# Altium footprint library Interface USB.PcbLib: 41 footprints (part 2 of 3)
Each footprint in its own frame and in the unit in brackets; x right, y up, seen from the top. Pads: shape width x height; smd on the part's side, far side on the other; paste and mask are expansions set on the pad; w line width, h text height; cw(c..) or ccw(c..) is an arc to the next point about the centre after c.
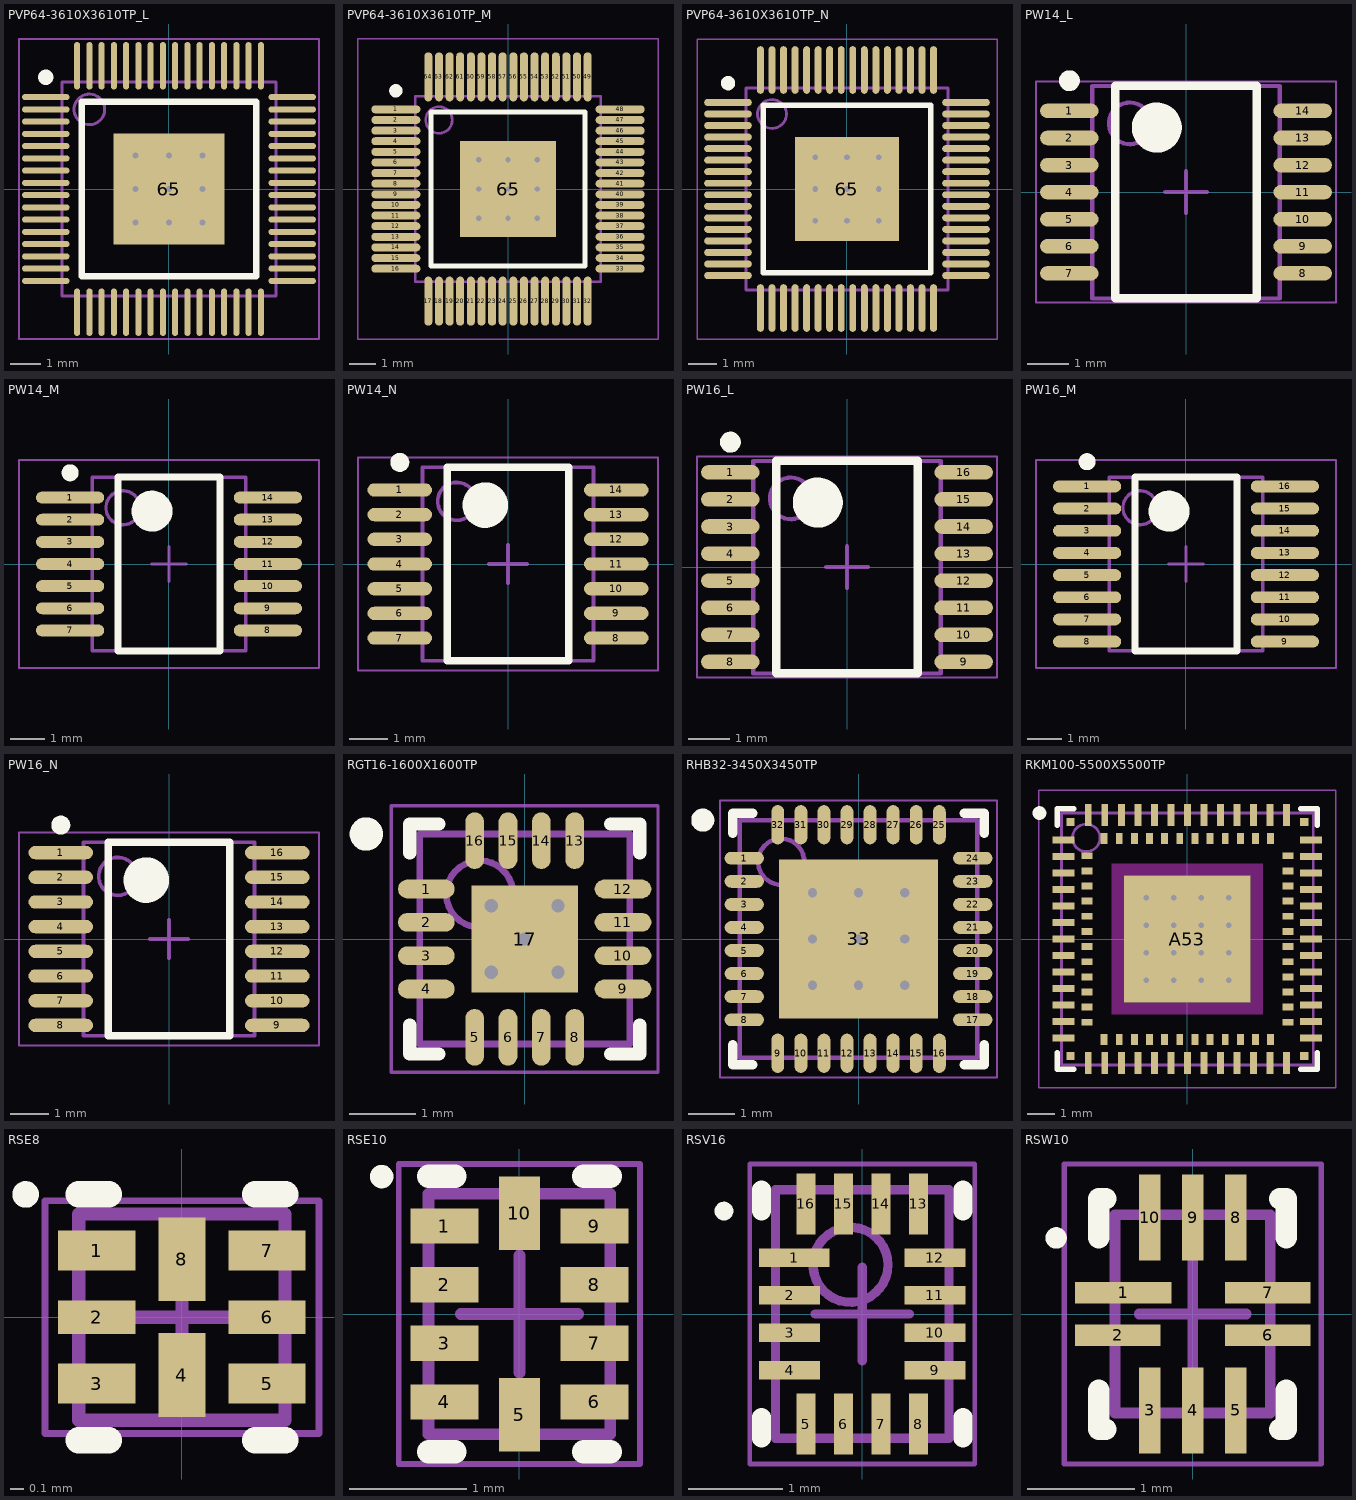
[diagram p1: the footprints below, top view; thin cyan lines are the x and y axes]

## PVP64-3610X3610TP_L [mm] "Thin QFP, 64-Leads, Body 7x7mm, Pitch 0.4mm, IPC High Density"
height 1.2
pads (65):
  oval 1.55x0.2 smd: 1(-4.025,3) 2(-4.025,2.6) 3(-4.025,2.2) 4(-4.025,1.8) 5(-4.025,1.4) 6(-4.025,1) 7(-4.025,0.6) 8(-4.025,0.2) 9(-4.025,-0.2) 10(-4.025,-0.6) 11(-4.025,-1) 12(-4.025,-1.4) 13(-4.025,-1.8) 14(-4.025,-2.2) 15(-4.025,-2.6) 16(-4.025,-3) 33(4.025,-3) 34(4.025,-2.6) 35(4.025,-2.2) 36(4.025,-1.8) 37(4.025,-1.4) 38(4.025,-1) 39(4.025,-0.6) 40(4.025,-0.2) 41(4.025,0.2) 42(4.025,0.6) 43(4.025,1) 44(4.025,1.4) 45(4.025,1.8) 46(4.025,2.2) 47(4.025,2.6) 48(4.025,3)
  oval 0.2x1.55 smd: 17(-3,-4.025) 18(-2.6,-4.025) 19(-2.2,-4.025) 20(-1.8,-4.025) 21(-1.4,-4.025) 22(-1,-4.025) 23(-0.6,-4.025) 24(-0.2,-4.025) 25(0.2,-4.025) 26(0.6,-4.025) 27(1,-4.025) 28(1.4,-4.025) 29(1.8,-4.025) 30(2.2,-4.025) 31(2.6,-4.025) 32(3,-4.025) 49(3,4.025) 50(2.6,4.025) 51(2.2,4.025) 52(1.8,4.025) 53(1.4,4.025) 54(1,4.025) 55(0.6,4.025) 56(0.2,4.025) 57(-0.2,4.025) 58(-0.6,4.025) 59(-1,4.025) 60(-1.4,4.025) 61(-1.8,4.025) 62(-2.2,4.025) 63(-2.6,4.025) 64(-3,4.025)
  rect 3.61x3.61 smd: 65(0,0)
via 0,0 diameter 0.5 hole 0.2
via -1.1,0 diameter 0.5 hole 0.2
via -1.1,-1.1 diameter 0.5 hole 0.2
via 0,-1.1 diameter 0.5 hole 0.2
via 1.1,-1.1 diameter 0.5 hole 0.2
via 1.1,0 diameter 0.5 hole 0.2
via 1.1,1.1 diameter 0.5 hole 0.2
via 0,1.1 diameter 0.5 hole 0.2
via -1.1,1.1 diameter 0.5 hole 0.2
Top Overlay:
  circle w0.25: c-4.025,3.65 r0.125
  lines w0.2: -2.85,-2.85 -2.85,2.85 2.85,2.85 2.85,-2.85 -2.85,-2.85
Mechanical 13:
  circle w0.1: c-2.6,2.6 r0.5
  lines w0.1: -3.5,-3.5 -3.5,3.5 3.5,3.5 3.5,-3.5 -3.5,-3.5
Mechanical 15:
  lines w0.05: -4.9,-4.9 -4.9,4.9 4.9,4.9 4.9,-4.9 -4.9,-4.9
  lines w0.1: -0.5,0 0.5,0 ; 0,-0.5 0,0.5
3D body "TQFP64_7x7mm_Pitch0.4mm..step": height 1, standoff 0, extent -4.5,-4.5 4.5,4.5

## PVP64-3610X3610TP_M [mm] "Thin QFP, 64-Leads, Body 7x7mm, Pitch 0.4mm, IPC Low Density"
height 1.2
pads (65):
  oval 1.85x0.3 smd: 1(-4.225,3) 2(-4.225,2.6) 3(-4.225,2.2) 4(-4.225,1.8) 5(-4.225,1.4) 6(-4.225,1) 7(-4.225,0.6) 8(-4.225,0.2) 9(-4.225,-0.2) 10(-4.225,-0.6) 11(-4.225,-1) 12(-4.225,-1.4) 13(-4.225,-1.8) 14(-4.225,-2.2) 15(-4.225,-2.6) 16(-4.225,-3) 33(4.225,-3) 34(4.225,-2.6) 35(4.225,-2.2) 36(4.225,-1.8) 37(4.225,-1.4) 38(4.225,-1) 39(4.225,-0.6) 40(4.225,-0.2) 41(4.225,0.2) 42(4.225,0.6) 43(4.225,1) 44(4.225,1.4) 45(4.225,1.8) 46(4.225,2.2) 47(4.225,2.6) 48(4.225,3)
  oval 0.3x1.85 smd: 17(-3,-4.225) 18(-2.6,-4.225) 19(-2.2,-4.225) 20(-1.8,-4.225) 21(-1.4,-4.225) 22(-1,-4.225) 23(-0.6,-4.225) 24(-0.2,-4.225) 25(0.2,-4.225) 26(0.6,-4.225) 27(1,-4.225) 28(1.4,-4.225) 29(1.8,-4.225) 30(2.2,-4.225) 31(2.6,-4.225) 32(3,-4.225) 49(3,4.225) 50(2.6,4.225) 51(2.2,4.225) 52(1.8,4.225) 53(1.4,4.225) 54(1,4.225) 55(0.6,4.225) 56(0.2,4.225) 57(-0.2,4.225) 58(-0.6,4.225) 59(-1,4.225) 60(-1.4,4.225) 61(-1.8,4.225) 62(-2.2,4.225) 63(-2.6,4.225) 64(-3,4.225)
  rect 3.61x3.61 smd: 65(0,0)
via -1.1,1.1 diameter 0.5 hole 0.2
via 0,1.1 diameter 0.5 hole 0.2
via 1.1,1.1 diameter 0.5 hole 0.2
via 1.1,0 diameter 0.5 hole 0.2
via 1.1,-1.1 diameter 0.5 hole 0.2
via 0,-1.1 diameter 0.5 hole 0.2
via -1.1,-1.1 diameter 0.5 hole 0.2
via -1.1,0 diameter 0.5 hole 0.2
via 0,0 diameter 0.5 hole 0.2
Top Overlay:
  circle w0.25: c-4.225,3.7 r0.125
  lines w0.2: -2.9,-2.9 2.9,-2.9 2.9,2.9 -2.9,2.9 -2.9,-2.9
Mechanical 13:
  circle w0.1: c-2.6,2.6 r0.5
  lines w0.1: -3.5,-3.5 3.5,-3.5 3.5,3.5 -3.5,3.5 -3.5,-3.5
Mechanical 15:
  lines w0.05: -5.65,-5.65 5.65,-5.65 5.65,5.65 -5.65,5.65 -5.65,-5.65
  lines w0.1: -0.5,0 0.5,0 ; 0,-0.5 0,0.5
3D body "TQFP64_7x7mm_Pitch0.4mm..step": height 1, standoff 0, extent -4.5,-4.5 4.5,4.5

## PVP64-3610X3610TP_N [mm] "Thin QFP, 64-Leads, Body 7x7mm, Pitch 0.4mm, IPC Medium Density"
height 1.2
pads (65):
  oval 1.65x0.24 smd: 1(-4.125,3) 2(-4.125,2.6) 3(-4.125,2.2) 4(-4.125,1.8) 5(-4.125,1.4) 6(-4.125,1) 7(-4.125,0.6) 8(-4.125,0.2) 9(-4.125,-0.2) 10(-4.125,-0.6) 11(-4.125,-1) 12(-4.125,-1.4) 13(-4.125,-1.8) 14(-4.125,-2.2) 15(-4.125,-2.6) 16(-4.125,-3) 33(4.125,-3) 34(4.125,-2.6) 35(4.125,-2.2) 36(4.125,-1.8) 37(4.125,-1.4) 38(4.125,-1) 39(4.125,-0.6) 40(4.125,-0.2) 41(4.125,0.2) 42(4.125,0.6) 43(4.125,1) 44(4.125,1.4) 45(4.125,1.8) 46(4.125,2.2) 47(4.125,2.6) 48(4.125,3)
  oval 0.24x1.65 smd: 17(-3,-4.125) 18(-2.6,-4.125) 19(-2.2,-4.125) 20(-1.8,-4.125) 21(-1.4,-4.125) 22(-1,-4.125) 23(-0.6,-4.125) 24(-0.2,-4.125) 25(0.2,-4.125) 26(0.6,-4.125) 27(1,-4.125) 28(1.4,-4.125) 29(1.8,-4.125) 30(2.2,-4.125) 31(2.6,-4.125) 32(3,-4.125) 49(3,4.125) 50(2.6,4.125) 51(2.2,4.125) 52(1.8,4.125) 53(1.4,4.125) 54(1,4.125) 55(0.6,4.125) 56(0.2,4.125) 57(-0.2,4.125) 58(-0.6,4.125) 59(-1,4.125) 60(-1.4,4.125) 61(-1.8,4.125) 62(-2.2,4.125) 63(-2.6,4.125) 64(-3,4.125)
  rect 3.61x3.61 smd: 65(0,0)
via -1.1,1.1 diameter 0.5 hole 0.2
via 0,1.1 diameter 0.5 hole 0.2
via 1.1,1.1 diameter 0.5 hole 0.2
via 1.1,0 diameter 0.5 hole 0.2
via 1.1,-1.1 diameter 0.5 hole 0.2
via 0,-1.1 diameter 0.5 hole 0.2
via -1.1,-1.1 diameter 0.5 hole 0.2
via -1.1,0 diameter 0.5 hole 0.2
via 0,0 diameter 0.5 hole 0.2
Top Overlay:
  circle w0.25: c-4.125,3.67 r0.125
  lines w0.2: -2.9,-2.9 2.9,-2.9 2.9,2.9 -2.9,2.9 -2.9,-2.9
Mechanical 13:
  circle w0.1: c-2.6,2.6 r0.5
  lines w0.1: -3.5,-3.5 3.5,-3.5 3.5,3.5 -3.5,3.5 -3.5,-3.5
Mechanical 15:
  lines w0.05: -5.2,-5.2 5.2,-5.2 5.2,5.2 -5.2,5.2 -5.2,-5.2
  lines w0.1: -0.5,0 0.5,0 ; 0,-0.5 0,0.5
3D body "TQFP64_7x7mm_Pitch0.4mm..step": height 1, standoff 0, extent -4.5,-4.5 4.5,4.5

## PW14_L [mm] "TSOP, 14-Leads, Body 5x4.4mm, Pitch 0.65mm, IPC High Density"
height 1.2
pads (14):
  oval 1.4x0.35 smd: 1(-2.8,1.95) 2(-2.8,1.3) 3(-2.8,0.65) 4(-2.8,0) 5(-2.8,-0.65) 6(-2.8,-1.3) 7(-2.8,-1.95) 8(2.8,-1.95) 9(2.8,-1.3) 10(2.8,-0.65) 11(2.8,0) 12(2.8,0.65) 13(2.8,1.3) 14(2.8,1.95)
Top Overlay:
  circle w0.6: c-0.7,1.55 r0.3
  circle w0.25: c-2.8,2.675 r0.125
  lines w0.2: -1.7,-2.55 1.7,-2.55 1.7,2.55 -1.7,2.55 -1.7,-2.55
Mechanical 13:
  circle w0.1: c-1.35,1.65 r0.5
  lines w0.1: -2.25,-2.55 2.25,-2.55 2.25,2.55 -2.25,2.55 -2.25,-2.55
Mechanical 15:
  lines w0.05: -3.6,-2.65 3.6,-2.65 3.6,2.65 -3.6,2.65 -3.6,-2.65
  lines w0.1: -0.5,0 0.5,0 ; 0,-0.5 0,0.5
3D body "TSSOP14-1.step": height 1.1, standoff 0, extent -3.2,-2.5 3.2,2.5

## PW14_M [mm] "TSOP, 14-Leads, Body 5x4.4mm, Pitch 0.65mm, IPC Low Density"
height 1.2
pads (14):
  oval 2x0.35 smd: 1(-2.9,1.95) 2(-2.9,1.3) 3(-2.9,0.65) 4(-2.9,0) 5(-2.9,-0.65) 6(-2.9,-1.3) 7(-2.9,-1.95) 8(2.9,-1.95) 9(2.9,-1.3) 10(2.9,-0.65) 11(2.9,0) 12(2.9,0.65) 13(2.9,1.3) 14(2.9,1.95)
Top Overlay:
  circle w0.6: c-0.5,1.55 r0.3
  circle w0.25: c-2.9,2.675 r0.125
  lines w0.2: -1.5,-2.55 1.5,-2.55 1.5,2.55 -1.5,2.55 -1.5,-2.55
Mechanical 13:
  circle w0.1: c-1.35,1.65 r0.5
  lines w0.1: -2.25,-2.55 2.25,-2.55 2.25,2.55 -2.25,2.55 -2.25,-2.55
Mechanical 15:
  lines w0.05: -4.4,-3.05 4.4,-3.05 4.4,3.05 -4.4,3.05 -4.4,-3.05
  lines w0.1: -0.5,0 0.5,0 ; 0,-0.5 0,0.5
3D body "TSSOP14-1.step": height 1.1, standoff 0, extent -3.2,-2.5 3.2,2.5

## PW14_N [mm] "TSOP, 14-Leads, Body 5x4.4mm, Pitch 0.65mm, IPC Medium Density"
height 1.2
pads (14):
  oval 1.7x0.35 smd: 1(-2.85,1.95) 2(-2.85,1.3) 3(-2.85,0.65) 4(-2.85,0) 5(-2.85,-0.65) 6(-2.85,-1.3) 7(-2.85,-1.95) 8(2.85,-1.95) 9(2.85,-1.3) 10(2.85,-0.65) 11(2.85,0) 12(2.85,0.65) 13(2.85,1.3) 14(2.85,1.95)
Top Overlay:
  circle w0.6: c-0.6,1.55 r0.3
  circle w0.25: c-2.85,2.675 r0.125
  lines w0.2: -1.6,-2.55 1.6,-2.55 1.6,2.55 -1.6,2.55 -1.6,-2.55
Mechanical 13:
  circle w0.1: c-1.35,1.65 r0.5
  lines w0.1: -2.25,-2.55 2.25,-2.55 2.25,2.55 -2.25,2.55 -2.25,-2.55
Mechanical 15:
  lines w0.05: -3.95,-2.8 3.95,-2.8 3.95,2.8 -3.95,2.8 -3.95,-2.8
  lines w0.1: -0.5,0 0.5,0 ; 0,-0.5 0,0.5
3D body "TSSOP14-1.step": height 1.1, standoff 0, extent -3.2,-2.5 3.2,2.5

## PW16_L [mm] "TSOP, 16-Leads, Body 5x4.4mm, Pitch 0.65mm, IPC High Density"
height 1.2
pads (16):
  oval 1.4x0.35 smd: 1(-2.8,2.275) 2(-2.8,1.625) 3(-2.8,0.975) 4(-2.8,0.325) 5(-2.8,-0.325) 6(-2.8,-0.975) 7(-2.8,-1.625) 8(-2.8,-2.275) 9(2.8,-2.275) 10(2.8,-1.625) 11(2.8,-0.975) 12(2.8,-0.325) 13(2.8,0.325) 14(2.8,0.975) 15(2.8,1.625) 16(2.8,2.275)
Top Overlay:
  circle w0.6: c-0.7,1.55 r0.3
  circle w0.25: c-2.8,3 r0.125
  lines w0.2: -1.7,-2.55 1.7,-2.55 1.7,2.55 -1.7,2.55 -1.7,-2.55
Mechanical 13:
  circle w0.1: c-1.35,1.65 r0.5
  lines w0.1: -2.25,-2.55 2.25,-2.55 2.25,2.55 -2.25,2.55 -2.25,-2.55
Mechanical 15:
  lines w0.05: -3.6,-2.65 3.6,-2.65 3.6,2.65 -3.6,2.65 -3.6,-2.65
  lines w0.1: -0.5,0 0.5,0 ; 0,-0.5 0,0.5
3D body "TSSOP16-1.step": height 1.1, standoff 0, extent -3.2,-2.5 3.2,2.5

## PW16_M [mm] "TSOP, 16-Leads, Body 5x4.4mm, Pitch 0.65mm, IPC Low Density"
height 1.2
pads (16):
  oval 2x0.35 smd: 1(-2.9,2.275) 2(-2.9,1.625) 3(-2.9,0.975) 4(-2.9,0.325) 5(-2.9,-0.325) 6(-2.9,-0.975) 7(-2.9,-1.625) 8(-2.9,-2.275) 9(2.9,-2.275) 10(2.9,-1.625) 11(2.9,-0.975) 12(2.9,-0.325) 13(2.9,0.325) 14(2.9,0.975) 15(2.9,1.625) 16(2.9,2.275)
Top Overlay:
  circle w0.6: c-0.5,1.55 r0.3
  circle w0.25: c-2.9,3 r0.125
  lines w0.2: -1.5,-2.55 1.5,-2.55 1.5,2.55 -1.5,2.55 -1.5,-2.55
Mechanical 13:
  circle w0.1: c-1.35,1.65 r0.5
  lines w0.1: -2.25,-2.55 2.25,-2.55 2.25,2.55 -2.25,2.55 -2.25,-2.55
Mechanical 15:
  lines w0.05: -4.4,-3.05 4.4,-3.05 4.4,3.05 -4.4,3.05 -4.4,-3.05
  lines w0.1: -0.5,0 0.5,0 ; 0,-0.5 0,0.5
3D body "TSSOP16-1.step": height 1.1, standoff 0, extent -3.2,-2.5 3.2,2.5

## PW16_N [mm] "TSOP, 16-Leads, Body 5x4.4mm, Pitch 0.65mm, IPC Medium Density"
height 1.2
pads (16):
  oval 1.7x0.35 smd: 1(-2.85,2.275) 2(-2.85,1.625) 3(-2.85,0.975) 4(-2.85,0.325) 5(-2.85,-0.325) 6(-2.85,-0.975) 7(-2.85,-1.625) 8(-2.85,-2.275) 9(2.85,-2.275) 10(2.85,-1.625) 11(2.85,-0.975) 12(2.85,-0.325) 13(2.85,0.325) 14(2.85,0.975) 15(2.85,1.625) 16(2.85,2.275)
Top Overlay:
  circle w0.25: c-2.85,3 r0.125
  circle w0.6: c-0.6,1.55 r0.3
  lines w0.2: -1.6,-2.55 -1.6,2.55 1.6,2.55 1.6,-2.55 -1.6,-2.55
Mechanical 13:
  circle w0.1: c-1.35,1.65 r0.5
  lines w0.1: -2.25,-2.55 -2.25,2.55 2.25,2.55 2.25,-2.55 -2.25,-2.55
Mechanical 15:
  lines w0.05: -3.95,-2.8 -3.95,2.8 3.95,2.8 3.95,-2.8 -3.95,-2.8
  lines w0.1: -0.5,0 0.5,0 ; 0,-0.5 0,0.5
3D body "TSSOP16-1.step": height 1.1, standoff 0, extent -3.2,-2.5 3.2,2.5

## RGT16-1600X1600TP [mm] "QFN, 16-Leads, Body 3x3mm, Pitch 0.5mm, Thermal Pad 1.6x1.6mm, TI Recommended"
height 1
pads (17):
  oval 0.85x0.28 smd paste-0.025 mask+0.07: 1(-1.475,0.75) 2(-1.475,0.25) 3(-1.475,-0.25) 4(-1.475,-0.75) 9(1.475,-0.75) 10(1.475,-0.25) 11(1.475,0.25) 12(1.475,0.75)
  oval 0.28x0.85 smd paste-0.025 mask+0.07: 5(-0.75,-1.475) 6(-0.25,-1.475) 7(0.25,-1.475) 8(0.75,-1.475) 13(0.75,1.475) 14(0.25,1.475) 15(-0.25,1.475) 16(-0.75,1.475)
  rect 1.6x1.6 smd paste-0.8 mask+0.07: 17(0,0)
via 0,0 diameter 0.5 hole 0.2
via 0.5,-0.5 diameter 0.5 hole 0.2
via -0.5,-0.5 diameter 0.5 hole 0.2
via 0.5,0.5 diameter 0.5 hole 0.2
via -0.5,0.5 diameter 0.5 hole 0.2
Top Overlay:
  circle w0.25: c-2.375,1.575 r0.125
  lines w0.2: -1.725,-1.29 -1.725,-1.725 -1.29,-1.725 ; -1.725,1.29 -1.725,1.725 -1.29,1.725 ; 1.29,-1.725 1.725,-1.725 1.725,-1.29 ; 1.29,1.725 1.725,1.725 1.725,1.29
Top Paste:
  rectangle: 0.1,-0.8 0.8,-0.1
  region: -0.1,-0.1 -0.8,-0.1 -0.8,-0.8 -0.1,-0.8
  region: -0.1,0.8 -0.8,0.8 -0.8,0.1 -0.1,0.1
  rectangle: 0.1,0.1 0.8,0.8
Mechanical 13:
  circle w0.1: c-0.675,0.675 r0.5
  lines w0.1: -1.575,-1.575 1.575,-1.575 1.575,1.575 -1.575,1.575 -1.575,-1.575
Mechanical 15:
  lines w0.05: -2,-2 2,-2 2,2 -2,2 -2,-2
  lines w0.1: -0.5,0 0.5,0 ; 0,-0.5 0,0.5
3D body "QFN16-3x3.STEP": height 0.9, standoff 0, extent -1.549,-1.521 1.493,1.521

## RHB32-3450X3450TP [mm] "QFN, 32-Leads, Body 5x5mm, Pitch 0.5mm, Thermal Pad 3.45x3.45mm, TI Recommended"
height 1
pads (33):
  oval 0.85x0.28 smd paste-0.025 mask+0.07: 1(-2.475,1.75) 2(-2.475,1.25) 3(-2.475,0.75) 4(-2.475,0.25) 5(-2.475,-0.25) 6(-2.475,-0.75) 7(-2.475,-1.25) 8(-2.475,-1.75) 17(2.475,-1.75) 18(2.475,-1.25) 19(2.475,-0.75) 20(2.475,-0.25) 21(2.475,0.25) 22(2.475,0.75) 23(2.475,1.25) 24(2.475,1.75)
  oval 0.28x0.85 smd paste-0.025 mask+0.07: 9(-1.75,-2.475) 10(-1.25,-2.475) 11(-0.75,-2.475) 12(-0.25,-2.475) 13(0.25,-2.475) 14(0.75,-2.475) 15(1.25,-2.475) 16(1.75,-2.475) 25(1.75,2.475) 26(1.25,2.475) 27(0.75,2.475) 28(0.25,2.475) 29(-0.25,2.475) 30(-0.75,2.475) 31(-1.25,2.475) 32(-1.75,2.475)
  rect 3.45x3.45 smd paste-1.725 mask+0.07: 33(0,0)
via 1,-1 diameter 0.5 hole 0.2
via 0,-1 diameter 0.5 hole 0.2
via -1,-1 diameter 0.5 hole 0.2
via 1,0 diameter 0.5 hole 0.2
via 0,0 diameter 0.5 hole 0.2
via -1,0 diameter 0.5 hole 0.2
via 1,1 diameter 0.5 hole 0.2
via 0,1 diameter 0.5 hole 0.2
via -1,1 diameter 0.5 hole 0.2
Top Overlay:
  circle w0.25: c-3.375,2.575 r0.125
  lines w0.2: -2.725,-2.29 -2.725,-2.725 -2.29,-2.725 ; -2.725,2.29 -2.725,2.725 -2.29,2.725 ; 2.29,-2.725 2.725,-2.725 2.725,-2.29 ; 2.29,2.725 2.725,2.725 2.725,2.29
Top Paste:
  region: -0.15,-0.15 -1.6,-0.15 -1.6,-1.6 -0.15,-1.6
  rectangle: 0.15,-1.6 1.6,-0.15
  rectangle: 0.15,0.15 1.6,1.6
  region: -0.15,1.6 -1.6,1.6 -1.6,0.15 -0.15,0.15
Mechanical 13:
  circle w0.1: c-1.675,1.675 r0.5
  lines w0.1: -2.575,-2.575 2.575,-2.575 2.575,2.575 -2.575,2.575 -2.575,-2.575
Mechanical 15:
  lines w0.05: -3,-3 3,-3 3,3 -3,3 -3,-3
  lines w0.1: -0.5,0 0.5,0 ; 0,-0.5 0,0.5
3D body "QFN32-5x5.step": height 0.8, standoff 0, extent -2.51,-2.51 2.51,2.51

## RKM100-5500X5500TP [mm] "QFN, 100-Leads, Body 9x9mm, Pitch 0.6mm, Thermal Pad 4.6x4.6mm, TI Recommended"
height 0.8
pads (105):
  rect 0.8x0.25 smd paste-0.125 mask+0.07: A1(-4.5,3.6) A2(-4.5,3) A3(-4.5,2.4) A4(-4.5,1.8) A5(-4.5,1.2) A6(-4.5,0.6) A7(-4.5,0) A8(-4.5,-0.6) A9(-4.5,-1.2) A10(-4.5,-1.8) A11(-4.5,-2.4) A12(-4.5,-3) A13(-4.5,-3.6) A27(4.5,-3.6) A28(4.5,-3) A29(4.5,-2.4) A30(4.5,-1.8) A31(4.5,-1.2) A32(4.5,-0.6) A33(4.5,0) A34(4.5,0.6) A35(4.5,1.2) A36(4.5,1.8) A37(4.5,2.4) A38(4.5,3) A39(4.5,3.6)
  rect 0.25x0.8 smd paste-0.125 mask+0.07: A14(-3.6,-4.5) A15(-3,-4.5) A16(-2.4,-4.5) A17(-1.8,-4.5) A18(-1.2,-4.5) A19(-0.6,-4.5) A20(0,-4.5) A21(0.6,-4.5) A22(1.2,-4.5) A23(1.8,-4.5) A24(2.4,-4.5) A25(3,-4.5) A26(3.6,-4.5) A40(3.6,4.5) A41(3,4.5) A42(2.4,4.5) A43(1.8,4.5) A44(1.2,4.5) A45(0.6,4.5) A46(0,4.5) A47(-0.6,4.5) A48(-1.2,4.5) A49(-1.8,4.5) A50(-2.4,4.5) A51(-3,4.5) A52(-3.6,4.5)
  rect 4.6x4.6 smd paste-2.3: A53(0,0)
  rect 0.4x0.25 smd mask+0.07: B1(-3.65,3.025) B2(-3.65,2.475) B3(-3.65,1.925) B4(-3.65,1.375) B5(-3.65,0.825) B6(-3.65,0.275) B7(-3.65,-0.275) B8(-3.65,-0.825) B9(-3.65,-1.375) B10(-3.65,-1.925) B11(-3.65,-2.475) B12(-3.65,-3.025) B25(3.65,-3.025) B26(3.65,-2.475) B27(3.65,-1.925) B28(3.65,-1.375) B29(3.65,-0.825) B30(3.65,-0.275) B31(3.65,0.275) B32(3.65,0.825) B33(3.65,1.375) B34(3.65,1.925) B35(3.65,2.475) B36(3.65,3.025)
  rect 0.25x0.4 smd mask+0.07: B13(-3.025,-3.65) B14(-2.475,-3.65) B15(-1.925,-3.65) B16(-1.375,-3.65) B17(-0.825,-3.65) B18(-0.275,-3.65) B19(0.275,-3.65) B20(0.825,-3.65) B21(1.375,-3.65) B22(1.925,-3.65) B23(2.475,-3.65) B24(3.025,-3.65) B37(3.025,3.65) B38(2.475,3.65) B39(1.925,3.65) B40(1.375,3.65) B41(0.825,3.65) B42(0.275,3.65) B43(-0.275,3.65) B44(-0.825,3.65) B45(-1.375,3.65) B46(-1.925,3.65) B47(-2.475,3.65) B48(-3.025,3.65)
  rect 0.3x0.3 smd mask+0.07: C1(-4.25,4.25) C2(-4.25,-4.25) C3(4.25,-4.25) C4(4.25,4.25)
via -1.5,1.5 diameter 0.5 hole 0.2
via -0.5,1.5 diameter 0.5 hole 0.2
via 0.5,1.5 diameter 0.5 hole 0.2
via 1.5,1.5 diameter 0.5 hole 0.2
via -1.5,0.5 diameter 0.5 hole 0.2
via -0.5,0.5 diameter 0.5 hole 0.2
via 0.5,0.5 diameter 0.5 hole 0.2
via 1.5,0.5 diameter 0.5 hole 0.2
via -1.5,-0.5 diameter 0.5 hole 0.2
via -0.5,-0.5 diameter 0.5 hole 0.2
via 0.5,-0.5 diameter 0.5 hole 0.2
via 1.5,-0.5 diameter 0.5 hole 0.2
via -1.5,-1.5 diameter 0.5 hole 0.2
via -0.5,-1.5 diameter 0.5 hole 0.2
via 0.5,-1.5 diameter 0.5 hole 0.2
via 1.5,-1.5 diameter 0.5 hole 0.2
Top Overlay:
  circle w0.25: c-5.375,4.575 r0.125
  lines w0.2: -4.725,-4.125 -4.725,-4.725 -4.125,-4.725 ; -4.725,4.125 -4.725,4.725 -4.125,4.725 ; 4.125,-4.725 4.725,-4.725 4.725,-4.125 ; 4.125,4.725 4.725,4.725 4.725,4.125
Top Paste:
  region: 3.475,4.875 3.475,4.125 3.725,4.125 3.725,4.875
  region: 2.875,4.875 2.875,4.125 3.125,4.125 3.125,4.875
  region: 2.275,4.875 2.275,4.125 2.525,4.125 2.525,4.875
  region: 1.675,4.875 1.675,4.125 1.925,4.125 1.925,4.875
  region: 1.075,4.875 1.075,4.125 1.325,4.125 1.325,4.875
  region: 0.475,4.875 0.475,4.125 0.725,4.125 0.725,4.875
  region: -0.125,4.875 -0.125,4.125 0.125,4.125 0.125,4.875
  region: -0.725,4.875 -0.725,4.125 -0.475,4.125 -0.475,4.875
  region: -1.325,4.875 -1.325,4.125 -1.075,4.125 -1.075,4.875
  region: -1.925,4.875 -1.925,4.125 -1.675,4.125 -1.675,4.875
  region: -2.525,4.875 -2.525,4.125 -2.275,4.125 -2.275,4.875
  region: -3.125,4.875 -3.125,4.125 -2.875,4.125 -2.875,4.875
  region: -3.725,4.875 -3.725,4.125 -3.475,4.125 -3.475,4.875
  region: 4.875,-3.475 4.125,-3.475 4.125,-3.725 4.875,-3.725
  region: 4.875,-2.875 4.125,-2.875 4.125,-3.125 4.875,-3.125
  region: 4.875,-2.275 4.125,-2.275 4.125,-2.525 4.875,-2.525
  region: 4.875,-1.675 4.125,-1.675 4.125,-1.925 4.875,-1.925
  region: 4.875,-1.075 4.125,-1.075 4.125,-1.325 4.875,-1.325
  region: 4.875,-0.475 4.125,-0.475 4.125,-0.725 4.875,-0.725
  region: 4.875,0.125 4.125,0.125 4.125,-0.125 4.875,-0.125
  region: 4.875,0.725 4.125,0.725 4.125,0.475 4.875,0.475
  region: 4.875,1.325 4.125,1.325 4.125,1.075 4.875,1.075
  region: 4.875,1.925 4.125,1.925 4.125,1.675 4.875,1.675
  region: 4.875,2.525 4.125,2.525 4.125,2.275 4.875,2.275
  region: 4.875,3.125 4.125,3.125 4.125,2.875 4.875,2.875
  region: 4.875,3.725 4.125,3.725 4.125,3.475 4.875,3.475
  region: -3.475,-4.875 -3.475,-4.125 -3.725,-4.125 -3.725,-4.875
  region: -2.875,-4.875 -2.875,-4.125 -3.125,-4.125 -3.125,-4.875
  region: -2.275,-4.875 -2.275,-4.125 -2.525,-4.125 -2.525,-4.875
  region: -1.675,-4.875 -1.675,-4.125 -1.925,-4.125 -1.925,-4.875
  region: -1.075,-4.875 -1.075,-4.125 -1.325,-4.125 -1.325,-4.875
  region: -0.475,-4.875 -0.475,-4.125 -0.725,-4.125 -0.725,-4.875
  region: 0.125,-4.875 0.125,-4.125 -0.125,-4.125 -0.125,-4.875
  region: 0.725,-4.875 0.725,-4.125 0.475,-4.125 0.475,-4.875
  region: 1.325,-4.875 1.325,-4.125 1.075,-4.125 1.075,-4.875
  region: 1.925,-4.875 1.925,-4.125 1.675,-4.125 1.675,-4.875
  region: 2.525,-4.875 2.525,-4.125 2.275,-4.125 2.275,-4.875
  region: 3.125,-4.875 3.125,-4.125 2.875,-4.125 2.875,-4.875
  region: 3.725,-4.875 3.725,-4.125 3.475,-4.125 3.475,-4.875
  rectangle: -4.875,-3.725 -4.125,-3.475
  rectangle: -4.875,-3.125 -4.125,-2.875
  rectangle: -4.875,-2.525 -4.125,-2.275
  rectangle: -4.875,-1.925 -4.125,-1.675
  rectangle: -4.875,-1.325 -4.125,-1.075
  rectangle: -4.875,-0.725 -4.125,-0.475
  rectangle: -4.875,-0.125 -4.125,0.125
  rectangle: -4.875,0.475 -4.125,0.725
  rectangle: -4.875,1.075 -4.125,1.325
  rectangle: -4.875,1.675 -4.125,1.925
  rectangle: -4.875,2.275 -4.125,2.525
  rectangle: -4.875,2.875 -4.125,3.125
  region: 0.15,1.95 0.15,0.15 1.95,0.15 1.95,1.95
  region: 1.95,-0.15 0.15,-0.15 0.15,-1.95 1.95,-1.95
  region: -0.15,-1.95 -0.15,-0.15 -1.95,-0.15 -1.95,-1.95
  rectangle: -1.95,0.15 -0.15,1.95
  rectangle: -4.875,3.475 -4.125,3.725
Keep-Out Layer:
  region: -2.3,-2.3 -2.3,-2.75 2.75,-2.75 2.75,-2.3
  region: 2.3,2.3 2.3,2.75 -2.75,2.75 -2.75,2.3
  rectangle: 2.3,-2.3 2.75,2.75
  region: -2.3,2.3 -2.75,2.3 -2.75,-2.75 -2.3,-2.75
Mechanical 13:
  circle w0.1: c-3.675,3.675 r0.5
  lines w0.1: -4.575,-4.575 -4.575,4.575 4.575,4.575 4.575,-4.575 -4.575,-4.575
Mechanical 15:
  lines w0.05: -5.4,-5.4 -5.4,5.4 5.4,5.4 5.4,-5.4 -5.4,-5.4
  lines w0.1: -0.5,0 0.5,0 ; 0,-0.5 0,0.5
3D body: height 0.8, standoff 0, extent -4.575,-4.575 4.575,4.575

## RSE8 [mm] "QFN, 8-Leads, Body 1.5x1.5mm, Pitch 0.5mm, TI Recommended"
height 0.6
pads (8):
  rect 0.58x0.3 smd paste-0.025 mask+0.05: 1(-0.64,0.5) 3(-0.64,-0.5) 5(0.64,-0.5) 7(0.64,0.5)
  rect 0.58x0.25 smd paste-0.125 mask+0.05: 2(-0.64,0) 6(0.64,0)
  rect 0.35x0.63 smd paste-0.025 mask+0.05: 4(0,-0.435) 8(0,0.435)
Top Overlay:
  circle w0.1: c-1.175,0.923 r0.05
  lines w0.2: -0.775,-0.925 -0.55,-0.925 ; -0.775,0.925 -0.55,0.925 ; 0.55,-0.925 0.775,-0.925 ; 0.55,0.925 0.775,0.925
Top Paste:
  region: -0.375,0.125 -0.905,0.125 -0.905,-0.125 -0.375,-0.125
  rectangle: 0.375,-0.125 0.905,0.125
Mechanical 13:
  lines w0.1: -0.775,-0.775 -0.775,0.775 0.775,0.775 0.775,-0.775 -0.775,-0.775
Mechanical 15:
  lines w0.05: -1.03,-0.875 -1.03,0.875 1.03,0.875 1.03,-0.875 -1.03,-0.875
  lines w0.1: -0.5,0 0.5,0 ; 0,-0.5 0,0.5
3D body: height 0.6, standoff 0, extent -0.775,-0.775 0.775,0.775

## RSE10 [mm] "QFN, 10-Leads, Body 1.5x2mm, Pitch 0.5mm, TI Recommended"
height 0.6
pads (10):
  rect 0.58x0.3 smd paste-0.025 mask+0.05: 1(-0.64,0.75) 2(-0.64,0.25) 3(-0.64,-0.25) 4(-0.64,-0.75) 6(0.64,-0.75) 7(0.64,-0.25) 8(0.64,0.25) 9(0.64,0.75)
  rect 0.35x0.63 smd paste-0.025 mask+0.05: 5(0,-0.86) 10(0,0.86)
Top Overlay:
  circle w0.1: c-1.175,1.173 r0.05
  lines w0.2: -0.775,-1.175 -0.55,-1.175 ; -0.775,1.175 -0.55,1.175 ; 0.55,-1.175 0.775,-1.175 ; 0.55,1.175 0.775,1.175
Mechanical 13:
  lines w0.1: -0.775,-1.025 -0.775,1.025 0.775,1.025 0.775,-1.025 -0.775,-1.025
Mechanical 15:
  lines w0.05: -1.03,-1.28 -1.03,1.28 1.03,1.28 1.03,-1.28 -1.03,-1.28
  lines w0.1: -0.5,0 0.5,0 ; 0,-0.5 0,0.5
3D body: height 0.6, standoff 0, extent -0.775,-1.025 0.775,1.025

## RSV16 [mm] "QFN, 16-Leads, Body 1.8x2.6mm, Pitch 0.4mm, TI Recommended"
height 0.55
pads (16):
  rect 0.75x0.2 smd paste-0.1 mask+0.05: 1(-0.725,0.6)
  rect 0.65x0.2 smd paste-0.1 mask+0.05: 2(-0.775,0.2) 3(-0.775,-0.2) 4(-0.775,-0.6) 9(0.775,-0.6) 10(0.775,-0.2) 11(0.775,0.2) 12(0.775,0.6)
  rect 0.2x0.65 smd paste-0.1 mask+0.05: 5(-0.6,-1.175) 6(-0.2,-1.175) 7(0.2,-1.175) 8(0.6,-1.175) 13(0.6,1.175) 14(0.2,1.175) 15(-0.2,1.175) 16(-0.6,1.175)
Top Overlay:
  circle w0.1: c-1.475,1.098 r0.05
  lines w0.2: -1.075,-1.325 -1.075,-1.1 ; -1.075,1.1 -1.075,1.325 ; 1.075,-1.325 1.075,-1.1 ; 1.075,1.1 1.075,1.325
Top Paste:
  rectangle: -1.1,0.08 -0.45,0.32
  rectangle: -1.1,-0.32 -0.45,-0.08
  rectangle: -1.1,-0.72 -0.45,-0.48
  rectangle: 0.45,0.48 1.1,0.72
  rectangle: 0.45,0.08 1.1,0.32
  rectangle: 0.45,-0.32 1.1,-0.08
  rectangle: 0.45,-0.72 1.1,-0.48
  region: 0.72,-1.5 0.72,-0.85 0.48,-0.85 0.48,-1.5
  region: 0.32,-1.5 0.32,-0.85 0.08,-0.85 0.08,-1.5
  region: -0.08,-1.5 -0.08,-0.85 -0.32,-0.85 -0.32,-1.5
  region: -0.48,-1.5 -0.48,-0.85 -0.72,-0.85 -0.72,-1.5
  region: -0.48,0.85 -0.48,1.5 -0.72,1.5 -0.72,0.85
  region: -0.08,0.85 -0.08,1.5 -0.32,1.5 -0.32,0.85
  region: 0.32,0.85 0.32,1.5 0.08,1.5 0.08,0.85
  region: 0.72,0.85 0.72,1.5 0.48,1.5 0.48,0.85
  region: -0.35,0.72 -1.1,0.72 -1.1,0.48 -0.35,0.48
Mechanical 13:
  circle w0.1: c-0.125,0.525 r0.4
  lines w0.1: -0.925,-1.325 0.925,-1.325 0.925,1.325 -0.925,1.325 -0.925,-1.325
Mechanical 15:
  lines w0.05: -1.2,-1.6 1.2,-1.6 1.2,1.6 -1.2,1.6 -1.2,-1.6
  lines w0.1: -0.5,0 0.5,0 ; 0,-0.5 0,0.5
3D body: height 0.55, standoff 0, extent -0.925,-1.325 0.925,1.325

## RSW10 [mm] "QFN, 10-Leads, Body 1.8x1.4 mm, Pitch 0.4mm, TI Recommended"
height 0.55
pads (10):
  rect 0.9x0.2 smd paste+0 mask+0.05: 1(-0.65,0.2)
  rect 0.8x0.2 smd paste+0 mask+0.05: 2(-0.7,-0.2) 6(0.7,-0.2) 7(0.7,0.2)
  rect 0.2x0.8 smd paste+0 mask+0.05: 3(-0.4,-0.9) 4(0,-0.9) 5(0.4,-0.9) 8(0.4,0.9) 9(0,0.9) 10(-0.4,0.9)
Top Overlay:
  circle w0.1: c-1.275,0.71 r0.05
  lines w0.2: -0.875,-0.713 -0.875,-1.075 -0.813,-1.075 ; -0.875,0.713 -0.875,1.075 -0.813,1.075 ; 0.813,-1.075 0.875,-1.075 0.875,-0.713 ; 0.813,1.075 0.875,1.075 0.875,0.713
Mechanical 13:
  lines w0.1: -0.725,-0.925 0.725,-0.925 0.725,0.925 -0.725,0.925 -0.725,-0.925
Mechanical 15:
  lines w0.05: -1.2,-1.4 1.2,-1.4 1.2,1.4 -1.2,1.4 -1.2,-1.4
  lines w0.1: -0.5,0 0.5,0 ; 0,-0.5 0,0.5
3D body: height 0.55, standoff 0, extent -0.725,-0.925 0.725,0.925